# Altium footprint library MAG-PcbLib.PcbLib: 10 footprints
Each footprint in its own frame and in the unit in brackets; x right, y up, seen from the top. Pads: shape width x height; smd on the part's side, far side on the other; paste and mask are expansions set on the pad; w line width, h text height; cw(c..) or ccw(c..) is an arc to the next point about the centre after c.
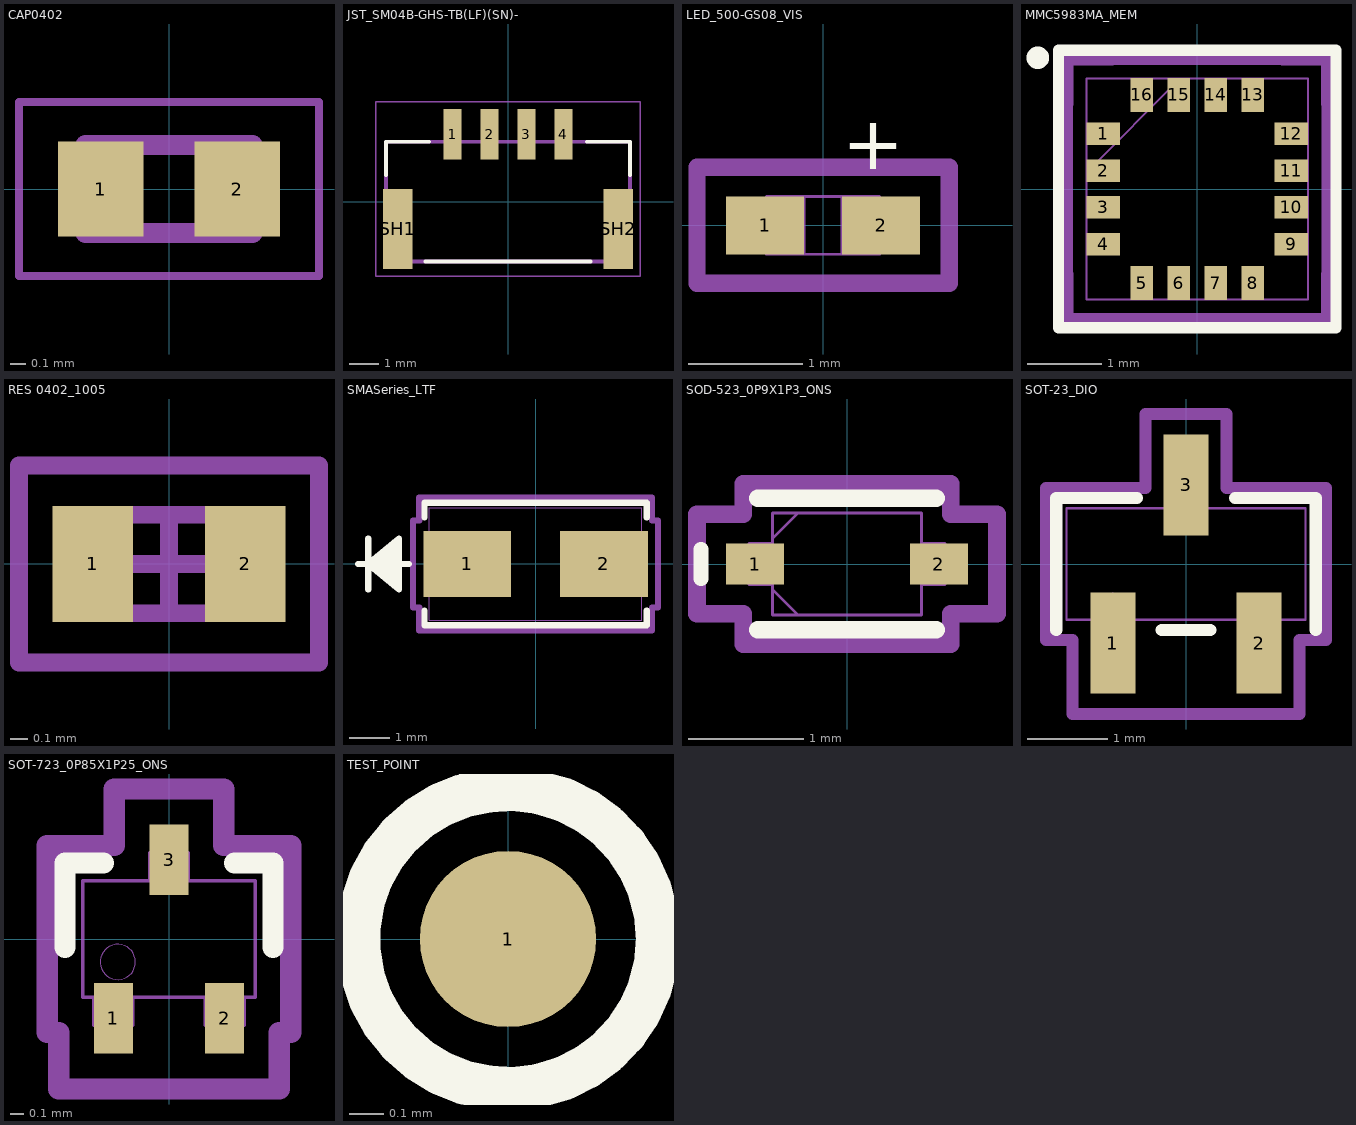
[diagram p0: the footprints below, top view; thin cyan lines are the x and y axes]

## CAP0402 [mm]
pads (2):
  rect 0.54x0.6 smd mask+0.051: 1(-0.432,0) 2(0.432,0)
Mechanical 13:
  lines w0.127: -0.53,-0.28 0.53,-0.28 0.53,0.28 -0.53,0.28 -0.53,-0.28
Mechanical 15:
  lines w0.05: -0.95,-0.55 0.95,-0.55 0.95,0.55 -0.95,0.55 -0.95,-0.55
3D body "step_temp.STEP": height 0.55, standoff 0, extent -0.5,-0.25 0.5,0.25

## JST_SM04B-GHS-TB(LF)(SN)- [mm]
pads (6):
  rect 0.6x1.7 smd: 1(-1.875,2.275) 2(-0.625,2.275) 3(0.625,2.275) 4(1.875,2.275)
  rect 1x2.7 smd: SH1(-3.725,-0.925) SH2(3.725,-0.925)
Top Overlay:
  lines w0.127: -4.125,0.889 -4.125,2.025 -2.667,2.025 ; -2.794,-2.032 2.794,-2.032 ; 2.667,2.025 4.125,2.025 4.125,0.889
Mechanical 13:
  circle w0.2: c-1.8,2.675 r0.1
  lines w0.127: -4.125,-2.025 -4.125,2.025 4.125,2.025 4.125,-2.025 -4.125,-2.025
Mechanical 15:
  lines w0.05: -4.475,-2.525 -4.475,3.375 4.475,3.375 4.475,-2.525 -4.475,-2.525
3D body "step_temp.STEP": height 4.35, standoff 0, extent -4.125,-2.032 4.125,2.818

## LED_500-GS08_VIS [mil]
pads (2):
  rect 27x20 smd paste+0 mask+0: 1(-20,0) 2(20,0)
Top Overlay:
  text "+" at 28,13.04 h32
Mechanical 13:
  lines w1: -19.5,-10 -19.5,10 ; -19.5,-10 19.5,-10 ; -19.5,-10 -6.5,-10 -6.5,10 -19.5,10 ; -19.5,-10 -19.5,10 ; -19.5,10 19.5,10 ; 19.5,-10 19.5,10 ; 19.5,-10 19.5,10 ; 19.5,-10 6.5,-10 6.5,10 19.5,10
Mechanical 15:
  lines w6: -43.5,-20 43.5,-20 43.5,20 -43.5,20 -43.5,-20
3D body "VLMx15xx_0402.stp": height 12.6, standoff -1.18, extent -19.68,-9.84 19.68,9.84

## MMC5983MA_MEM [mm]
pads (16):
  rect 0.457x0.305 smd paste+0 mask+0: 1(-1.275,0.75) 2(-1.275,0.25) 3(-1.275,-0.25) 4(-1.275,-0.75) 9(1.275,-0.75) 10(1.275,-0.25) 11(1.275,0.25) 12(1.275,0.75)
  rect 0.305x0.457 smd paste+0 mask+0: 5(-0.75,-1.275) 6(-0.25,-1.275) 7(0.25,-1.275) 8(0.75,-1.275) 13(0.75,1.275) 14(0.25,1.275) 15(-0.25,1.275) 16(-0.75,1.275)
Top Overlay:
  circle w0.254: c-2.159,1.778 r0.025
  lines w0.152: -1.88,-1.88 -1.88,1.88 1.88,1.88 1.88,-1.88 -1.88,-1.88
Mechanical 13:
  lines w0.025: -1.499,0.229 -0.229,1.499 ; -1.499,-1.499 -1.499,1.499 1.499,1.499 1.499,-1.499 -1.499,-1.499
Mechanical 15:
  lines w0.152: -1.758,-1.156 -1.758,1.156 -1.753,1.156 -1.753,1.753 -1.156,1.753 -1.156,1.758 1.156,1.758 1.156,1.753 1.753,1.753 1.753,1.156 1.758,1.156 1.758,-1.156 1.753,-1.156 1.753,-1.753 1.156,-1.753 1.156,-1.758 -1.156,-1.758 -1.156,-1.753 -1.753,-1.753 -1.753,-1.156 -1.758,-1.156
3D body "MMC5983MA_MEM.step": height 0.99, standoff 0, extent -1.549,-1.549 1.549,1.549

## RES 0402_1005 [mm] "Chip Resistor, 2-Leads, Body 1.0x0.5mm, IPC Medium Density"
height 0.4
pads (2):
  rect 0.45x0.65 smd mask+0.051: 1(-0.425,0) 2(0.425,0)
Mechanical 13:
  lines w0.1: -0.525,-0.275 -0.525,0.275 0.525,0.275 0.525,-0.275 -0.525,-0.275
Mechanical 15:
  lines w0.1: -0.275,0 0.275,0 ; 0,-0.275 0,0.275 ; -0.838,-0.55 -0.838,0.55 0.838,0.55 0.838,-0.55 -0.838,-0.55
3D body "0402 resistor.STEP": height 0.35, standoff 0, extent -0.5,-0.25 0.5,0.25

## SMASeries_LTF [mil]
pads (2):
  rect 86x65 smd paste+0 mask+0: 1(-67,0) 2(67,0)
Top Overlay:
  lines w6: -174,0 -124,0 ; -164,-25 -164,25 ; -134,-20 -164,0 ; -134,-15 -164,0 ; -134,-10 -164,0 ; -134,-5 -164,0 ; -134,5 -164,0 ; -134,10 -164,0 ; -134,15 -164,0 ; -134,20 -164,0 ; -109,-45.6 -109,-60 109,-60 109,-45.6 ; -109,45.6 -109,60 109,60 109,45.6 ; -164,0 -134,25 -134,-25 -164,0
Mechanical 13:
  lines w1: -174,0 -124,0 ; -164,-25 -164,25 ; -134,-20 -164,0 ; -134,-15 -164,0 ; -134,-10 -164,0 ; -134,-5 -164,0 ; -134,5 -164,0 ; -134,10 -164,0 ; -134,15 -164,0 ; -134,20 -164,0 ; -164,0 -134,25 -134,-25 -164,0 ; -104,-55 104,-55 104,55 -104,55 -104,-55
Mechanical 15:
  lines w6: -120,-42.5 -120,42.5 -114,42.5 -114,65 114,65 114,42.5 120,42.5 120,-42.5 114,-42.5 114,-65 -114,-65 -114,-42.5 -120,-42.5
3D body "SMASeries_LTF.step": height 92.01, standoff 0, extent -104.02,-55 104.02,55

## SOD-523_0P9X1P3_ONS [mil]
pads (2):
  rect 19.87x14 smd paste+0 mask+0: 1(-31.44,0) 2(31.44,0)
Top Overlay:
  lines w5: -50,-5 -50,5
  lines w6: -30.5,-22.5 30.5,-22.5 ; -30.5,22.5 30.5,22.5
Mechanical 13:
  lines w1: -25.5,-8.75 -16.75,-17.5 ; -25.5,8.75 -16.75,17.5 ; -33.5,-7 -33.5,7 -25.5,7 -25.5,-7 -33.5,-7 ; -25.5,-17.5 25.5,-17.5 25.5,17.5 -25.5,17.5 -25.5,-17.5 ; 25.5,-7 25.5,7 33.5,7 33.5,-7 25.5,-7
Mechanical 15:
  lines w6: -51.37,-17 -51.37,17 -35.5,17 -35.5,27.5 35.5,27.5 35.5,17 51.37,17 51.37,-17 35.5,-17 35.5,-27.5 -35.5,-27.5 -35.5,-17 -51.37,-17
3D body "SOD-523_0P9X1P3_ONS.step": height 18.27, standoff 0, extent -33.5,-17.48 33.5,17.48

## SOT-23_DIO [mil]
pads (3):
  rect 22x50 smd paste+0 mask+0: 1(-36.02,-39) 2(36.02,-39) 3(0,39)
Top Overlay:
  lines w6: -64,-32.5 -64,32.5 -24.1,32.5 ; -11.92,-32.5 11.92,-32.5 ; 24.1,32.5 64,32.5 64,-32.5
Mechanical 13:
  circle w0: c-36.02,-17.5 r3
  lines w1: -59,-27.5 59,-27.5 59,27.5 -59,27.5 -59,-27.5 ; -46.02,-50 -46.02,-27.5 -26.02,-27.5 -26.02,-50 -46.02,-50 ; -10,27.5 10,27.5 10,50 -10,50 -10,27.5 ; 26.02,-50 26.02,-27.5 46.02,-27.5 46.02,-50 26.02,-50
Mechanical 15:
  lines w6: -69,-37.5 -69,37.5 -20,37.5 -20,74 20,74 20,37.5 69,37.5 69,-37.5 56.02,-37.5 56.02,-74 -56.02,-74 -56.02,-37.5 -69,-37.5
3D body "SOT-23_DIO.step": height 45.12, standoff 0, extent -59.02,-50 59.02,50

## SOT-723_0P85X1P25_ONS [mil]
pads (3):
  rect 11x20 smd paste+0 mask+0: 1(-15.75,-22.5) 2(15.75,-22.5) 3(0,22.5)
Top Overlay:
  lines w6: -29.5,-2.33 -29.5,21.5 -18.6,21.5 ; 18.6,21.5 29.5,21.5 29.5,-2.33
Mechanical 13:
  circle w0: c-14.5,-6.5 r5
  lines w1: -24.5,-16.5 24.5,-16.5 24.5,16.5 -24.5,16.5 -24.5,-16.5 ; -21.25,-24.5 -21.25,-16.5 -10.25,-16.5 -10.25,-24.5 -21.25,-24.5 ; -5.5,16.5 5.5,16.5 5.5,24.5 -5.5,24.5 -5.5,16.5 ; 10.25,-24.5 10.25,-16.5 21.25,-16.5 21.25,-24.5 10.25,-24.5
Mechanical 15:
  lines w6: -34.5,-26.5 -34.5,26.5 -15.5,26.5 -15.5,42.5 15.5,42.5 15.5,26.5 34.5,26.5 34.5,-26.5 31.25,-26.5 31.25,-42.5 -31.25,-42.5 -31.25,-26.5 -34.5,-26.5
3D body "SOT-723_0P85X1P25_ONS.step": height 24.09, standoff 0, extent -24.49,-18.5 24.49,18.5

## TEST_POINT [mil]
pads (1):
  round 20 smd mask+2: 1(0,0)
Top Overlay:
  circle w5: c0,0 r17